# EAGLE library part 750813743 (library WE-OLTI)
WE-OLTI Offline Flyback Transformers Characteristics Nominal input voltage: 85–265 VAC (120–375 VDC) Small size Low leakage inductance Multiple-output options Operating temperature: −40 °C to +125 °C Isolation Voltage: 2 kVAC to 5 kVAC Options for fixed frequency or quasi-resonant mode operation Most products meet reinforced insulation Applications Industrial controls USB chargers Utility metering devices Process controls Factory automation Security systems Garage door opener auxiliary supplies Home appliances Especially designed for several ICs from Texas Instruments Details see: www.we-online.com/en/components/products/WE-OLTI Created by Ella 2025-02-06 2025 (C) Würth Elektronik
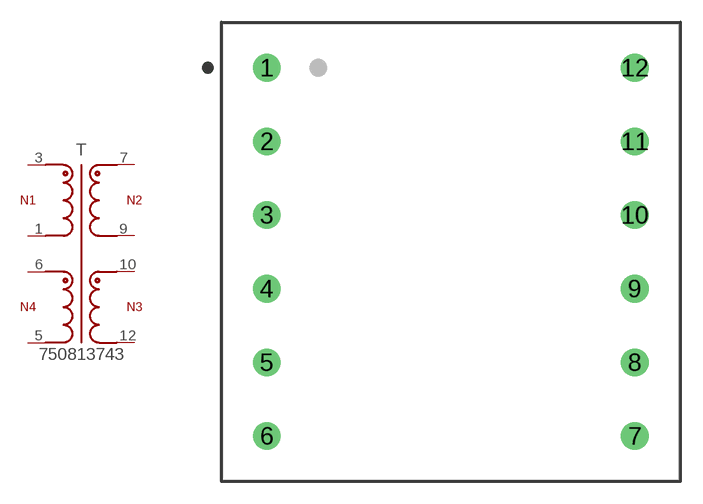
[diagram p11: symbol with the pads of WE-OLTI_ER28/14_L31W31H25; footprint WE-OLTI_ER28/14_L31W31H25]

Designator prefix T

## 750813743 (AUXILIARY_VOLTAGE_1: 15 V; CATEGORY: Transformers; DATASHEET: https://www.we-online.com/redexpert/spec/750813743?ae; HEIGHT: 25 mm; INDUCTANCE: 180 uH; INPUT_VOLTAGE: 90 - 144 V (AC); INSULATION_TEST_VOLTAGE: 3750 V (AC); LENGTH: 31 mm; MANUFACTURER: Würth Elektronik; MOUNT: THT; MPN: 750813743; OUTPUT_CURRENT_1: 4050 mA; OUTPUT_CURRENT_2: 4050 mA; OUTPUT_VOLTAGE_1: 12 V; OUTPUT_VOLTAGE_2: 12 V; SATURATION_CURRENT: 7.3 A; SIZE: ER28/14; SWITCHING-FREQUENCY: 60kHz; TURNS_RATIO: 10:1:1:1; VALUE: 180 uH; WIDTH: 31 mm)  [WE-OLTI_ER28/14_L31W31H25]
1  P2  pas
3  P1  pas
5  A2  pas
6  A1  pas
7  S1  pas
9  S2  pas
10  S3  pas
12  S4  pas

## Footprint WE-OLTI_ER28/14_L31W31H25 (pad centres in mm)
WE-OLTI Offline Flyback Transformers Size: ER28/14,THT,12pins LXWXH=31X31X25mm Bobbin: 070-4869
drill 1.25: 1 -12.5,12.5; 2 -12.5,7.5; 3 -12.5,2.5; 4 -12.5,-2.5; 5 -12.5,-7.5; 6 -12.5,-12.5; 7 12.5,-12.5; 8 12.5,-7.5; 9 12.5,-2.5; 10 12.5,2.5; 11 12.5,7.5; 12 12.5,12.5